# Altium schematic symbol library MCU_AnalogDevices.SchLib: 1 symbol
Pins are listed as number, name and electrical type; pins without a type are passive.

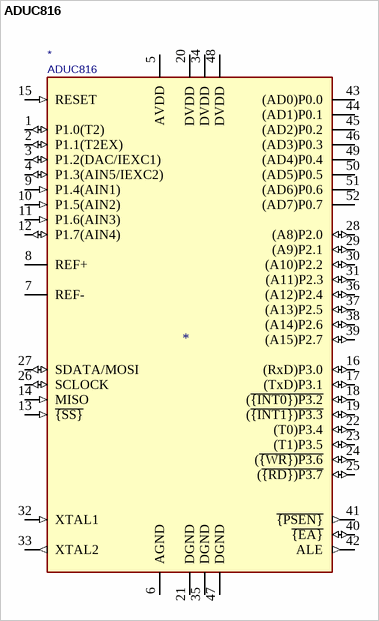
[diagram p0: symbol ADUC816]

## ADUC816
designator *  value ADUC816
ki_keywords: 8051 CORE MCU ADC DAC; ki_description: 8KB Flash, 256B SRAM, 640B EEPROM, 16-bit ADC, 12-bit DAC, MQFP-52; ki_fp_filters: MQFP*; Supplier: https://www.analog.com/static/imported-files/data_sheets/ADUC816.pdf
pins: 1 P1.0(T2) (io), 2 P1.1(T2EX) (io), 3 P1.2(DAC/IEXC1) (io), 4 P1.3(AIN5/IEXC2) (io), 5 AVDD (power), 6 AGND (power), 7 REF-, 8 REF+, 9 P1.4(AIN1) (in), 10 P1.5(AIN2) (in), 11 P1.6(AIN3) (in), 12 P1.7(AIN4) (io), 13 ~{{SS}} (in), 14 MISO (in), 15 RESET (in), 16 (RxD)P3.0 (io), 17 (TxD)P3.1 (io), 18 (~{{INT0})P3.2} (io), 19 (~{{INT1})P3.3} (io), 20 DVDD (power), 21 DGND (power), 22 (T0)P3.4 (io), 23 (T1)P3.5 (io), 24 (~{{WR})P3.6} (io), 25 (~{{RD})P3.7} (io), 26 SCLOCK (io), 27 SDATA/MOSI (io), 28 (A8)P2.0 (io), 29 (A9)P2.1 (io), 30 (A10)P2.2 (io), 31 (A11)P2.3 (io), 32 XTAL1 (in), 33 XTAL2 (out), 34 DVDD (power), 35 DGND (power), 36 (A12)P2.4 (io), 37 (A13)P2.5 (io), 38 (A14)P2.6 (io), 39 (A15)P2.7 (io), 40 ~{{EA}} (io), 41 ~{{PSEN}} (out), 42 ALE (out), 43 (AD0)P0.0 (hiz), 44 (AD1)P0.1 (hiz), 45 (AD2)P0.2 (hiz), 46 (AD3)P0.3 (hiz), 47 DGND (power), 48 DVDD (power), 49 (AD4)P0.4 (hiz), 50 (AD5)P0.5 (hiz), 51 (AD6)P0.6 (hiz), 52 (AD7)P0.7 (hiz)